# Altium footprint library DIP14.PcbLib: 1 footprints
Each footprint in its own frame and in the unit in brackets; x right, y up, seen from the top. Pads: shape width x height; smd on the part's side, far side on the other; paste and mask are expansions set on the pad; w line width, h text height; cw(c..) or ccw(c..) is an arc to the next point about the centre after c.
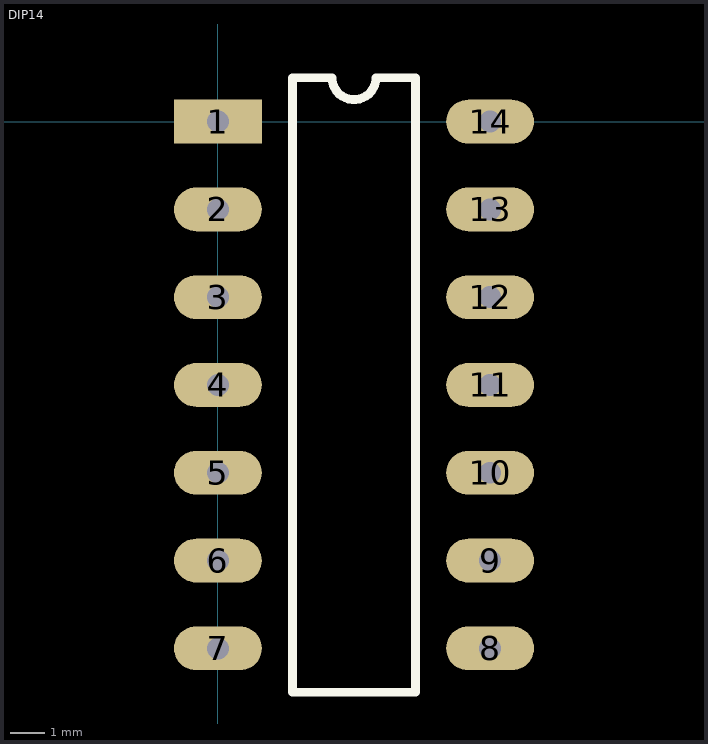
[diagram p0: the footprint, top view; thin cyan lines are the x and y axes]

## DIP14 [mil]
pads (14):
  rect 100x50 hole 25: 1(0,0)
  oval 100x50 hole 25: 2(0,-100) 3(0,-200) 4(0,-300) 5(0,-400) 6(0,-500) 7(0,-600) 8(310,-600) 9(310,-500) 10(310,-400) 11(310,-300) 12(310,-200) 13(310,-100) 14(310,0)
Top Overlay:
  lines w10: 85,-650 225,-650 225,50 180,50 cw(c155,50) 130,50 85,50 85,-650